# Altium schematic symbol library ZXTN19100CZTA.SchLib: 1 symbol
Pins are listed as number, name and electrical type; pins without a type are passive.

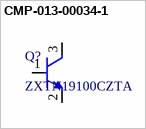
[diagram p0: symbol CMP-013-00034-1]

## CMP-013-00034-1
designator Q?, comment ZXTN19100CZTA
TRANS NPN 100V 5.25A SOT89
footprint ZXTN19100CZTA-Footprint-1
pins: 1 B, 2 E, 3 C